# EAGLE library part AS4C8M16SA (library ICs)
128Mb MOBILE SDRAM TSOP54
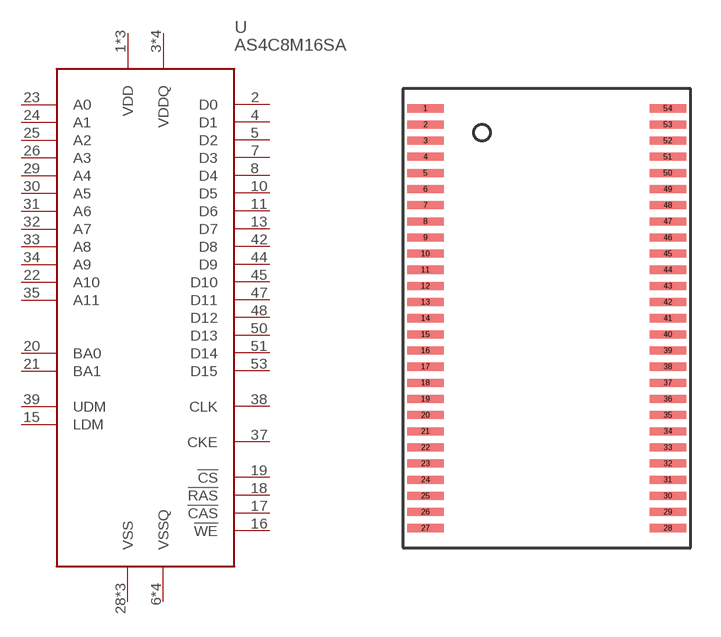
[diagram p97: symbol with the pads of TSOPII_54L_100MIL; footprint TSOPII_54L_100MIL]

Designator prefix U

## AS4C8M16SA (DIGIKEY: 1450-1269-ND; PRICE_PER: 1.41; VALUE: AS4C8M16SA)  [TSOPII_54L_100MIL]
1  VDD
2  D0
3  VDDQ
4  D1
5  D2
6  VSSQ
7  D3
8  D4
9  VDDQ
10  D5
11  D6
12  VSSQ
13  D7
14  VDD
15  LDM
16  !WE
17  !CAS
18  !RAS
19  !CS
20  BA0
21  BA1
22  A10
23  A0
24  A1
25  A2
26  A3
27  VDD
28  VSS
29  A4
30  A5
31  A6
32  A7
33  A8
34  A9
35  A11
37  CKE
38  CLK
39  UDM
41  VSS
42  D8
43  VDDQ
44  D9
45  D10
46  VSSQ
47  D11
48  D12
49  VDDQ
50  D13
51  D14
52  VSSQ
53  D15
54  VSS

## Footprint TSOPII_54L_100MIL (pad centres in mm)
smd 1.8 x 0.4: 1 -6,10.4; 2 -6,9.6; 3 -6,8.8; 4 -6,8; 5 -6,7.2; 6 -6,6.4; 7 -6,5.6; 8 -6,4.8; 9 -6,4; 10 -6,3.2; 11 -6,2.4; 12 -6,1.6; 13 -6,0.8; 14 -6,0; 15 -6,-0.8; 16 -6,-1.6; 17 -6,-2.4; 18 -6,-3.2; 19 -6,-4; 20 -6,-4.8; 21 -6,-5.6; 22 -6,-6.4; 23 -6,-7.2; 24 -6,-8; 25 -6,-8.8; 26 -6,-9.6; 27 -6,-10.4; 28 6,-10.4; 29 6,-9.6; 30 6,-8.8; 31 6,-8; 32 6,-7.2; 33 6,-6.4; 34 6,-5.6; 35 6,-4.8; 36 6,-4; 37 6,-3.2; 38 6,-2.4; 39 6,-1.6; 40 6,-0.8; 41 6,0; 42 6,0.8; 43 6,1.6; 44 6,2.4; 45 6,3.2; 46 6,4; 47 6,4.8; 48 6,5.6; 49 6,6.4; 50 6,7.2; 51 6,8; 52 6,8.8; 53 6,9.6; 54 6,10.4